# EAGLE library part MODULAR-JACK-6P-RJ11_SERIAL_M (library FaBo-Connetor)
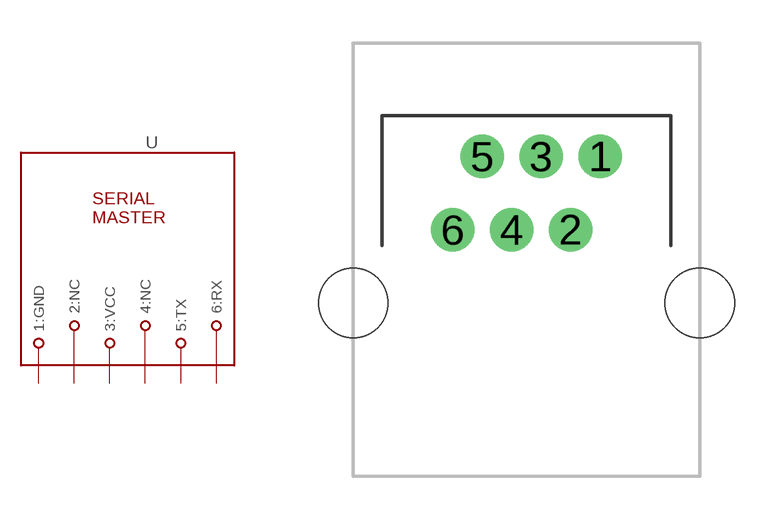
[diagram p11: symbol with the pads of 7002-6PXC-X; footprint 7002-6PXC-X]

Designator prefix -

## MODULAR-JACK-6P-RJ11_SERIAL_M  [7002-6PXC-X]
1  1:GND  pwr
2  2:NC  nc
3  3:VCC  pwr
4  4:NC  nc
5  5:TX  out
6  6:RX  in

## Footprint 7002-6PXC-X (pad centres in mm)
drill 1: 1 2.55,5.08; 2 1.53,2.54; 3 0.51,5.08; 4 -0.51,2.54; 5 -1.53,5.08; 6 -2.55,2.54
hole 2.4 at -6,0
hole 2.4 at 6,0